# EAGLE library part ATTINY85-20PU (library Programmer)
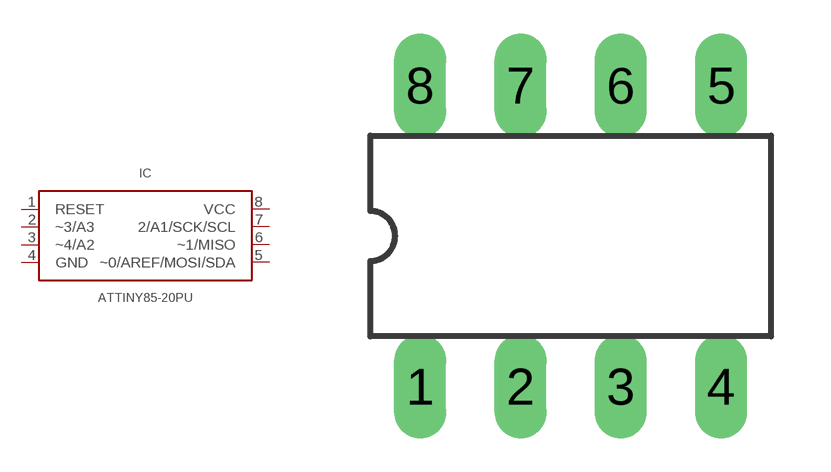
[diagram p1: symbol with the pads of DIP08; footprint DIP08]

Designator prefix IC

## ATTINY85-20PU  [DIP08]
1  RESET
2  ~3/A3
3  ~4/A2
4  GND
5  ~0/AREF/MOSI/SDA
6  ~1/MISO
7  2/A1/SCK/SCL
8  VCC

## Footprint DIP08 (pad centres in mm)
Dual In Line
drill 0.813 long: 1 -3.81,-3.81; 2 -1.27,-3.81; 3 1.27,-3.81; 4 3.81,-3.81; 5 3.81,3.81; 6 1.27,3.81; 7 -1.27,3.81; 8 -3.81,3.81